# Altium schematic symbol library AS5600-ASOT.SchLib: 1 symbol
Pins are listed as number, name and electrical type; pins without a type are passive.

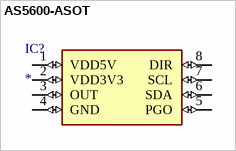
[diagram p0: symbol AS5600-ASOT]

## AS5600-ASOT
designator IC?
Hall Effect Sensor Angle External Magnet, Not Included Gull Wing; MF: ams; MP: AS5600-ASOT; SnapEDA_Link: https://www.snapeda.com/parts/AS5600-ASOT/ams/view-part/?ref=snap; Package: SOIC-8 ams; Value: *; Check_prices: https://www.snapeda.com/parts/AS5600-ASOT/ams/view-part/?ref=eda
footprint SOIC127P600X175-8N
pins: 1 VDD5V (io), 2 VDD3V3 (io), 3 OUT (io), 4 GND (io), 5 PGO (io), 6 SDA (io), 7 SCL (io), 8 DIR (io)